# Altium footprint library Hand封装库.PcbLib: 6 footprints
Each footprint in its own frame and in the unit in brackets; x right, y up, seen from the top. Pads: shape width x height; smd on the part's side, far side on the other; paste and mask are expansions set on the pad; w line width, h text height; cw(c..) or ccw(c..) is an arc to the next point about the centre after c.
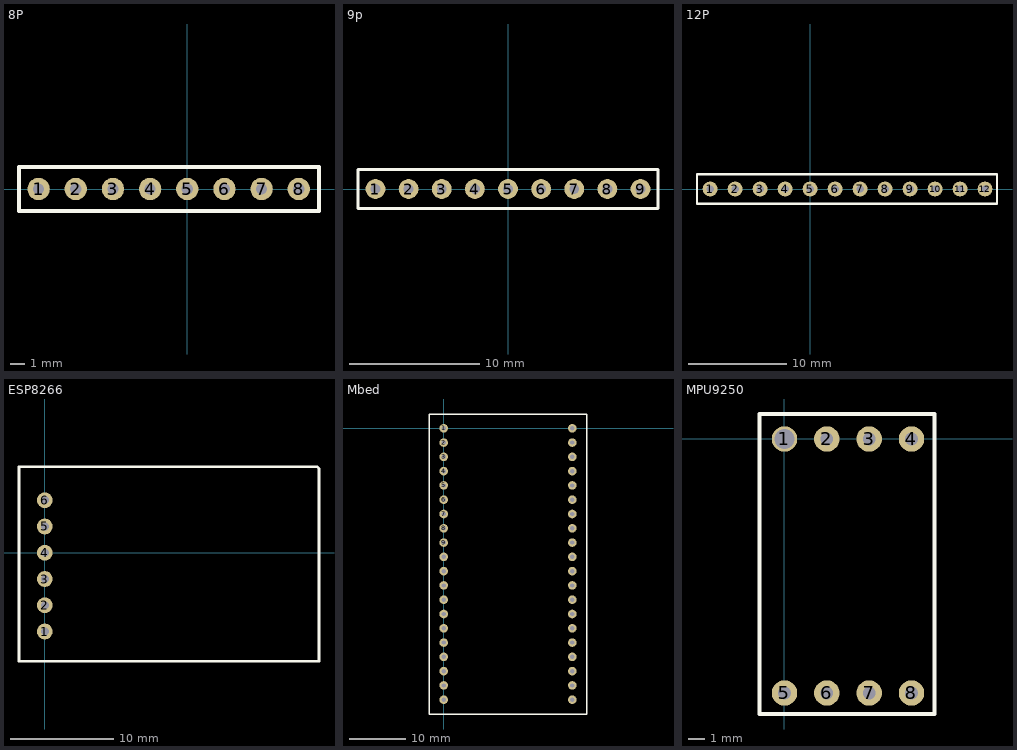
[diagram p0: the footprints below, top view; thin cyan lines are the x and y axes]

## 8P [mil]
pads (8):
  round 60 hole 30: 1(-400,0) 2(-300,0) 3(-200,0) 4(-100,0) 5(0,0) 6(100,0) 7(200,0) 8(300,0)
Top Overlay:
  lines w10: -452.76,-59.06 354.33,-59.06 354.33,59.06 -452.76,59.06 -452.76,-59.06

## 9p [mil]
pads (9):
  round 60 hole 30: 1(-400,0) 2(-300,0) 3(-200,0) 4(-100,0) 5(0,0) 6(100,0) 7(200,0) 8(300,0) 9(400,0)
Top Overlay:
  lines w10: -452.76,-59.06 452.76,-59.06 452.76,59.06 -452.76,59.06 -452.76,-59.06

## 12P [mil]
pads (12):
  round 60 hole 30: 1(-400,0) 2(-300,0) 3(-200,0) 4(-100,0) 5(0,0) 6(100,0) 7(200,0) 8(300,0) 9(400,0) 10(500,0) 11(600,0) 12(700,0)
Top Overlay:
  lines w10: -452.76,-59.06 748.03,-59.06 748.03,59.06 -452.76,59.06 -452.76,-59.06

## ESP8266 [mil]
pads (6):
  round 60 hole 30: 1(0,-300) 2(0,-200) 3(0,-100) 4(0,0) 5(0,100) 6(0,200)
Top Overlay:
  lines w10: -98.43,-413.39 1003.94,-413.39 1043.31,-413.39 1043.31,320.47 1036.22,327.56 -98.43,327.56 -98.43,-413.39

## Mbed [mil]
pads (40):
  round 60 hole 30: 1(0,0) 2(0,-100) 3(0,-200) 4(0,-300) 5(0,-400) 6(0,-500) 7(0,-600) 8(0,-700) 9(0,-800) 10(0,-900) 11(0,-1000) 12(0,-1100) 13(0,-1200) 14(0,-1300) 15(0,-1400) 16(0,-1500) 17(0,-1600) 18(0,-1700) 19(0,-1800) 20(0,-1900) 21(900,-1900) 22(900,-1800) 23(900,-1700) 24(900,-1600) 25(900,-1500) 26(900,-1400) 27(900,-1300) 28(900,-1200) 29(900,-1100) 30(900,-1000) 31(900,-900) 32(900,-800) 33(900,-700) 34(900,-600) 35(900,-500) 36(900,-400) 37(900,-300) 38(900,-200) 39(900,-100) 40(900,0)
Top Overlay:
  lines w10: -100,-2000 -100,100 1000,100 1000,-2000 -100,-2000

## MPU9250 [mil]
pads (8):
  round 60 hole 47.24: 1(0,0)
  round 60 hole 30: 2(100,0) 3(200,0) 4(300,0) 5(0,-600) 6(100,-600) 7(200,-600) 8(300,-600)
Top Overlay:
  lines w10: -59.06,-649.61 354.33,-649.61 354.33,59.06 -59.06,59.06 -59.06,-649.61